# EAGLE library part SM-LP-5001 (library _RoweTel)
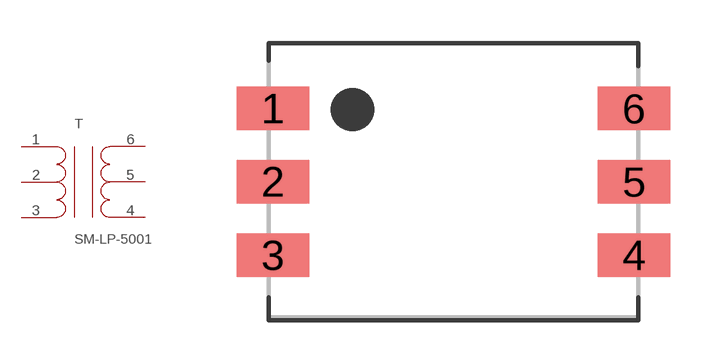
[diagram p66: symbol with the pads of SM-LP-5001; footprint SM-LP-5001]

Designator prefix T

## SM-LP-5001  [SM-LP-5001]
1  1  pas
2  2  pas
3  3  pas
4  4  pas
5  5  pas
6  6  pas

## Footprint SM-LP-5001 (pad centres in mm)
smd 2.5 x 1.5: 1 -6.25,2.54; 2 -6.25,0; 3 -6.25,-2.54; 4 6.25,-2.54; 5 6.25,0; 6 6.25,2.54